# Altium schematic symbol library Capacitors Ceramic SMD Other.SchLib: 1 symbol
Pins are listed as number, name and electrical type; pins without a type are passive.

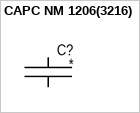
[diagram p0: symbol CAPC NM 1206(3216)]

## CAPC NM 1206(3216)
designator C?, comment /  (value not drawn)  (no BOM)
CAPC NM 1206(3216); Group: Discrete; Type: Ceramic; Component: Capacitor Ceramic; Package: 1206 (3216); Mounting type: Surface mount (Not mounted); Height: 1.80mm; Dimension: 3.20mm x 1.60mm
footprint CAPC3216N NM (Footprint not found)
footprint CAPC3216M NM (Footprint not found)
footprint CAPC3216L NM (Footprint not found)
pins: 1, 2